# Altium schematic symbol library MC78L15ACDR2G.SchLib: 1 symbol
Pins are listed as number, name and electrical type; pins without a type are passive.

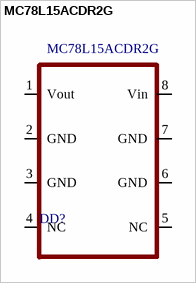
[diagram p0: symbol MC78L15ACDR2G]

## MC78L15ACDR2G
designator DD?
footprint Model Name (Footprint not found)
pins: 1 Vout, 2 GND, 3 GND, 4 NC, 5 NC, 6 GND, 7 GND, 8 Vin